# Altium schematic symbol library ElectroMechanical-Relay.SchLib: 2 symbols
Pins are listed as number, name and electrical type; pins without a type are passive.

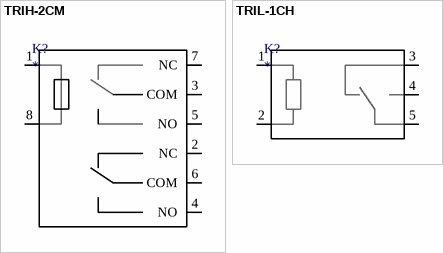
[diagram p0: symbols TRIH-2CM to TRIL-1CH]

## TRIH-2CM
designator K?
Name: *
pins: 1 17, 2 NC, 3 COM, 4 NO, 5 NO, 6 COM, 7 NC, 8 18

## TRIL-1CH
designator K?
Name: *
pins: 1 17, 2 18, 3 19, 4 20, 5 21